# EAGLE library part PDIUSBD11 (library xess)
USB - I2C converter
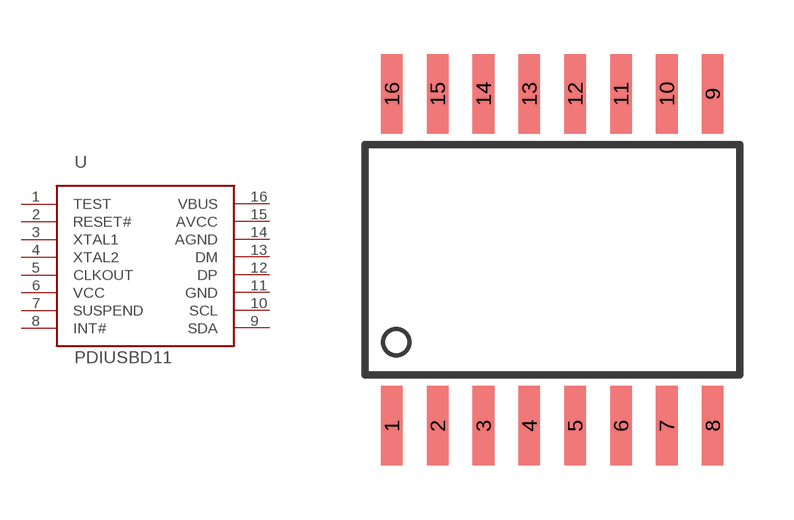
[diagram p10: symbol with the pads of SO16W; footprint SO16W]

Designator prefix U

## PDIUSBD11  [SO16W]
1  TEST  in
2  RESET#  in
3  XTAL1  in
4  XTAL2  out
5  CLKOUT  out
6  VCC  pwr
7  SUSPEND  out
8  INT#  out
9  SDA
10  SCL
11  GND  pwr
12  DP
13  DM
14  AGND  pwr
15  AVCC  pwr
16  VBUS  in

## Footprint SO16W (pad centres in mm)
smd 0.6 x 2.2: 1 -4.445,-4.6; 2 -3.175,-4.6; 3 -1.905,-4.6; 4 -0.635,-4.6; 5 0.635,-4.6; 6 1.905,-4.6; 7 3.175,-4.6; 8 4.445,-4.6; 9 4.445,4.6; 10 3.175,4.6; 11 1.905,4.6; 12 0.635,4.6; 13 -0.635,4.6; 14 -1.905,4.6; 15 -3.175,4.6; 16 -4.445,4.6